# Altium schematic symbol library JDY_libSchLib.SchLib: 10 symbols
Pins are listed as number, name and electrical type; pins without a type are passive.

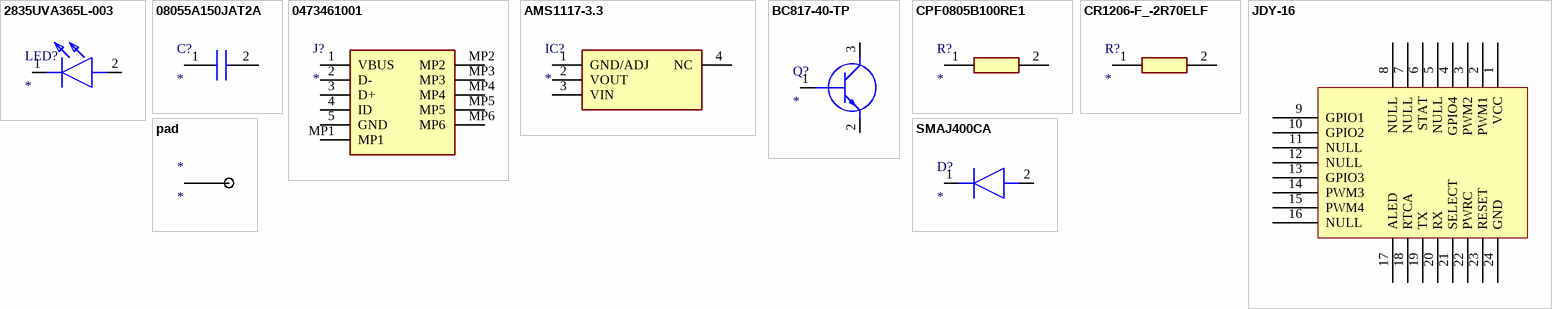
[diagram p0: symbols 2835UVA365L-003 to SMAJ400CA]

## 2835UVA365L-003
designator LED?
LED; Manufacturer_Name: TUOZHAN; Manufacturer_Part_Number: 2835UVA365L-003; Datasheet Link: https://datasheet.lcsc.com/lcsc/2103301538_TUOZHAN-2835UVA365L-003_C2762921.pdf; Height: 1.75mm
footprint 2835UVA365L003
pins: 1 K, 2 A

## 08055A150JAT2A
designator C?
Capacitor; Manufacturer_Name: AVX; Manufacturer_Part_Number: 08055A150JAT2A; Datasheet Link: https://componentsearchengine.com/Datasheets/1/06031A100FAT2A.pdf; Height: 0.94mm; Mouser Part Number: 581-08055A150J; Mouser Price/Stock: https://www.mouser.co.uk/ProductDetail/AVX/08055A150JAT2A?qs=pZVDklL%2Fs8hiEua37sqbaA%3D%3D; Arrow Part Number: 08055A150JAT2A; Arrow Price/Stock: https://www.arrow.com/en/products/08055a150jat2a/avx?region=nac
footprint CAPC2012X94N
pins: 1, 2

## 0473461001
designator J?
Connector; Manufacturer_Name: Molex; Manufacturer_Part_Number: 0473461001; Datasheet Link: https://componentsearchengine.com/Datasheets/1/0473461001.pdf; Height: 2.45mm; Mouser Part Number: N/A; Mouser Price/Stock: https://www.mouser.co.uk/ProductDetail/Molex/0473461001?qs=2bnkQPT%252BPafTZgGVt%2FOGfA%3D%3D; Arrow Part Number: 0473461001; Arrow Price/Stock: https://www.arrow.com/en/products/0473461001/molex?region=nac
footprint 0473461001
pins: 1 VBUS, 2 D-, 3 D+, 4 ID, 5 GND, MP1, MP2, MP3, MP4, MP5, MP6

## AMS1117-3.3
designator IC?
Integrated Circuit; Manufacturer_Name: Advanced; Manufacturer_Part_Number: AMS1117-3.3; Description: Descriptions of ams AMS1117-3.3 provided by its distributors.; Datasheet Link: https://datasheet.datasheetarchive.com/originals/distributors/Datasheets-28/DSA-550594.pdf; Height: 1.8mm
footprint SOT229P700X180-4N
pins: 1 GND/ADJ, 2 VOUT, 3 VIN, 4 NC

## BC817-40-TP
designator Q?
Transistor BJT NPN; Manufacturer_Name: MCC; Manufacturer_Part_Number: BC817-40-TP; Datasheet Link: https://datasheet.datasheetarchive.com/originals/distributors/Datasheets_SAMA/e37756629694f333266edd05d75a0c85.pdf; Mouser Part Number: 833-BC817-40-TP; Mouser Price/Stock: https://www.mouser.co.uk/ProductDetail/Micro-Commercial-Components-MCC/BC817-40-TP?qs=SdqRYZZ9IxCoM6d3e7i8MA%3D%3D; Arrow Part Number: BC817-40-TP; Arrow Price/Stock: https://www.arrow.com/en/products/bc817-40-tp/micro-commercial-components?region=nac
footprint SI2305TP
pins: 1 B, 2 E, 3 C

## CPF0805B100RE1
designator R?
Resistor; Manufacturer_Name: TE Connectivity; Manufacturer_Part_Number: CPF0805B100RE1; Datasheet Link: http://docs-europe.electrocomponents.com/webdocs/13d1/0900766b813d116f.pdf; Height: 0.65mm; Mouser Part Number: 279-CPF0805B100RE1; Mouser Price/Stock: https://www.mouser.co.uk/ProductDetail/TE-Connectivity-Holsworthy/CPF0805B100RE1?qs=9ylKvqdyudkCWLPT1QvLZQ%3D%3D; Arrow Part Number: CPF0805B100RE1; Arrow Price/Stock: https://www.arrow.com/en/products/cpf0805b100re1/te-connectivity?region=nac
footprint RESC2012X65N
pins: 1, 2

## CR1206-F_-2R70ELF
designator R?
Resistor; Manufacturer_Name: Bourns; Manufacturer_Part_Number: CR1206-F/-2R70ELF; Datasheet Link: https://mail.qq.com/cgi-bin/loginpage?autologin=n&errtype=1&clientuin=895793657&param=&sp=&tfcont=22%20serialization%3A%3Aarchive%2010%200%200%204%200%200%200%208%20authtype%201%204%209%20clientuin%209%20895793657%206%20domain%206%20qq.com%202%20vm%203%20; Height: 0.75mm; Mouser Part Number: 652-CR1206-F/2R70ELF; Mouser Price/Stock: https://www.mouser.co.uk/ProductDetail/Bourns/CR1206-F-2R70ELF?qs=W%2FMpXkg%252BdQ43a7iNS79Iog%3D%3D
footprint RESC3216X75N
pins: 1, 2

## JDY-16
designator JDY-16  (value not drawn)
footprint JDY-16 (JDY16)
pins: 1 VCC, 2 PWM1, 3 PWM2, 4 GPIO4, 5 NULL, 6 STAT, 7 NULL, 8 NULL, 9 GPIO1, 10 GPIO2, 11 NULL, 12 NULL, 13 GPIO3, 14 PWM3, 15 PWM4, 16 NULL, 17 ALED, 18 RTCA, 19 TX, 20 RX, 21 SELECT, 22 PWRC, 23 RESET, 24 GND

## pad
designator *
footprint pad
pins: 1 26

## SMAJ400CA
designator D?
Diode; Manufacturer_Name: LITTELFUSE; Manufacturer_Part_Number: SMAJ400CA; Datasheet Link: https://componentsearchengine.com/Datasheets/2/SMAJ400CA.pdf; Height: 2.29mm; Mouser Part Number: 576-SMAJ400CA; Mouser Price/Stock: https://www.mouser.co.uk/ProductDetail/Littelfuse/SMAJ400CA?qs=JJML70Qc14u1ivpCqQKjvw%3D%3D; Arrow Part Number: SMAJ400CA; Arrow Price/Stock: https://www.arrow.com/en/products/smaj400ca/littelfuse
footprint DIONM5026X229N
pins: 1 K, 2 A